# EAGLE library part MMA7361L (library talons)
MMA7361LC 3-Axis Accelerometer ±1.5/6g http://www.pololu.com/product/1246/resources http://www.freescale.com/webapp/sps/site/prod_summary.jsp?code=MMA7361LC&fsrch=1&sr=2&pageNum=1
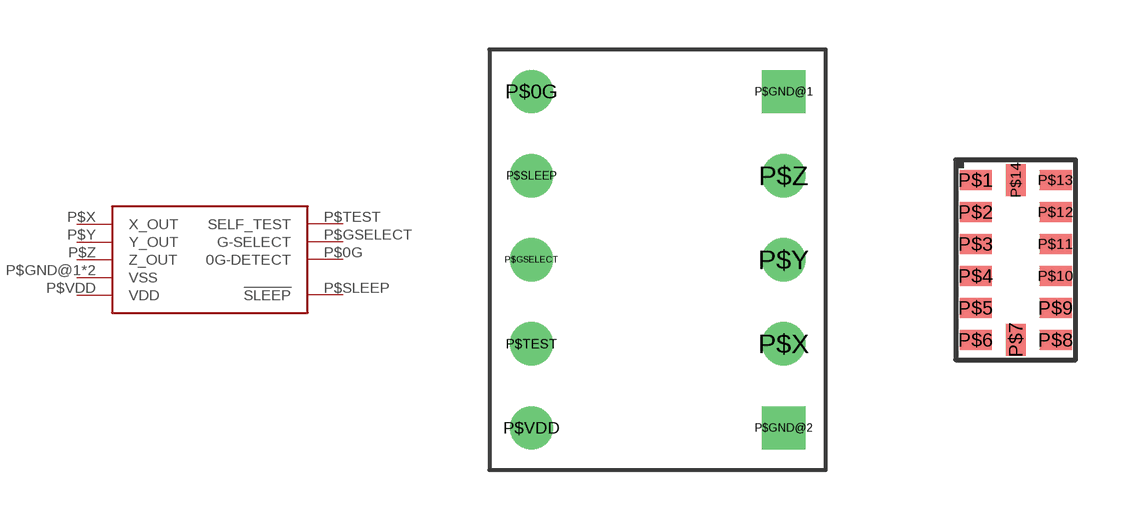
[diagram p2: symbol with the pads of MMA7361L-BREAKOUT; footprints MMA7361L-BREAKOUT, MMA7361LC]

Designator prefix -

## MMA7361LBREAKOUT  [MMA7361L-BREAKOUT]
P$0G  0G-DETECT  out
P$GND@1  VSS  pwr
P$GND@2  VSS  pwr
P$GSELECT  G-SELECT  in
P$SLEEP  !SLEEP
P$TEST  SELF_TEST  in
P$VDD  VDD  pwr
P$X  X_OUT  out
P$Y  Y_OUT  out
P$Z  Z_OUT  out

## MMA7361LSMD  [MMA7361LC]
P$2  X_OUT  out
P$3  Y_OUT  out
P$4  Z_OUT  out
P$5  VSS  pwr
P$6  VDD  pwr
P$7  !SLEEP
P$9  0G-DETECT  out
P$10  G-SELECT  in
P$13  SELF_TEST  in

## Footprint MMA7361L-BREAKOUT (pad centres in mm)
drill 0.8: P$0G -3.81,5.08; P$GSELECT -3.81,0; P$SLEEP -3.81,2.54; P$TEST -3.81,-2.54; P$VDD -3.81,-5.08; P$X 3.81,-2.54; P$Y 3.81,0; P$Z 3.81,2.54
drill 0.8 square: P$GND@1 3.81,5.08; P$GND@2 3.81,-5.08

## Footprint MMA7361LC (pad centres in mm)
smd 0.8 x 0.5: P$1 -1,2; P$2 -1,1.2; P$3 -1,0.4; P$4 -1,-0.4; P$5 -1,-1.2; P$6 -1,-2; P$8 1,-2; P$9 1,-1.2; P$10 1,-0.4; P$11 1,0.4; P$12 1,1.2; P$13 1,2
smd 0.5 x 0.8: P$7 0,-2; P$14 0,2